# Altium footprint library NX3225GD-8MHZ.PcbLib: 1 footprints
Each footprint in its own frame and in the unit in brackets; x right, y up, seen from the top. Pads: shape width x height; smd on the part's side, far side on the other; paste and mask are expansions set on the pad; w line width, h text height; cw(c..) or ccw(c..) is an arc to the next point about the centre after c.
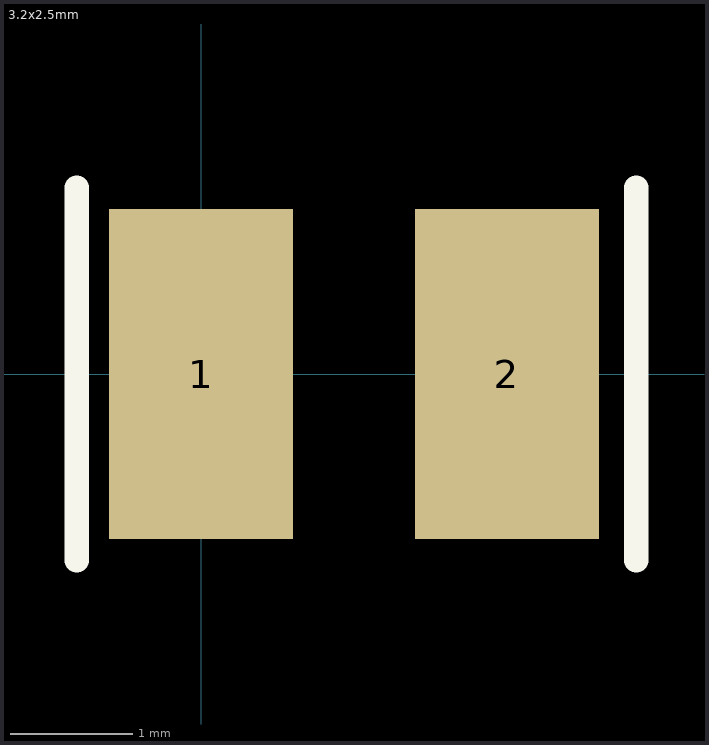
[diagram p0: the footprint, top view; thin cyan lines are the x and y axes]

## 3.2x2.5mm [mm]
pads (2):
  rect 1.5x2.7 smd: 1(0,0) 2(2.5,0)
Top Overlay:
  lines w0.2: -1.016,-1.524 -1.016,1.524 ; 3.556,-1.524 3.556,1.524
3D body "XTAL - NX3225GD-8MHZ.STEP": height 0.75, standoff 0, extent -0.279,-1.25 2.921,1.25